# Altium footprint library Vertical_Connectors.PCBLIB: 6 footprints
Each footprint in its own frame and in the unit in brackets; x right, y up, seen from the top. Pads: shape width x height; smd on the part's side, far side on the other; paste and mask are expansions set on the pad; w line width, h text height; cw(c..) or ccw(c..) is an arc to the next point about the centre after c.
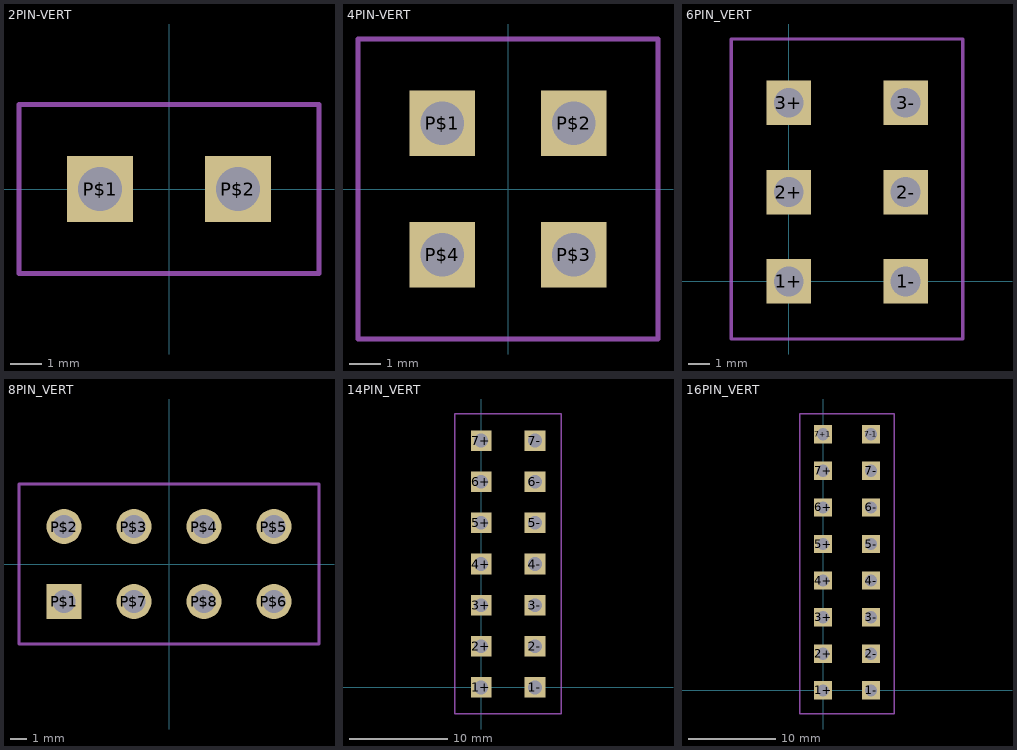
[diagram p0: the footprints below, top view; thin cyan lines are the x and y axes]

## 2PIN-VERT [mm]
pads (2):
  rect 2.1x2.1 / inner round 1.94 / far side rect 2.1x2.1 hole 1.4: P$1(-2.207,0) P$2(2.207,0)
tPlace:
  lines w0.152: -4.8,-2.7 4.8,-2.7 4.8,2.7 -4.8,2.7 -4.8,-2.7

## 4PIN-VERT [mm]
pads (4):
  rect 2.1x2.1 / inner round 1.94 / far side rect 2.1x2.1 hole 1.4: P$1(-2.1,2.1) P$2(2.1,2.1) P$3(2.1,-2.1) P$4(-2.1,-2.1)
tPlace:
  lines w0.152: -4.8,-4.8 4.8,-4.8 4.8,4.8 -4.8,4.8 -4.8,-4.8

## 6PIN_VERT [mm]
pads (6):
  rect 2.1x2.1 / inner round 1.94 / far side rect 2.1x2.1 hole 1.4: 1+(0,0) 1-(5.5,0) 2+(0,4.2) 2-(5.5,4.2) 3+(0,8.4) 3-(5.5,8.4)
tPlace:
  lines w0.152: -2.7,-2.71 -2.7,11.4 8.19,11.4 8.19,-2.71 -2.7,-2.71

## 8PIN_VERT [mm]
pads (8):
  rect 2.1x2.1 / inner round 1.94 / far side rect 2.1x2.1 hole 1.4: P$1(-6.3,-2.25)
  round 2.1 hole 1.4: P$2(-6.3,2.25) P$3(-2.1,2.25) P$4(2.1,2.25) P$5(6.3,2.25) P$6(6.3,-2.25) P$7(-2.1,-2.25) P$8(2.1,-2.25)
tPlace:
  lines w0.152: -9,-4.8 9,-4.8 9,4.8 -9,4.8 -9,-4.8

## 14PIN_VERT [mm]
pads (14):
  rect 2.1x2.1 / inner round 1.94 / far side rect 2.1x2.1 hole 1.4: 1+(0,0) 1-(5.5,0) 2+(0,4.2) 2-(5.5,4.2) 3+(0,8.4) 3-(5.5,8.4) 4+(0,12.6) 4-(5.5,12.6) 5+(0,16.8) 5-(5.5,16.8) 6+(0,21) 6-(5.5,21) 7+(0,25.2) 7-(5.5,25.2)
tPlace:
  lines w0.152: -2.7,-2.71 -2.7,27.91 8.19,27.91 8.19,-2.71 -2.7,-2.71

## 16PIN_VERT [mm]
pads (16):
  rect 2.1x2.1 / inner round 1.94 / far side rect 2.1x2.1 hole 1.4: 1+(0,0) 1-(5.5,0) 2+(0,4.2) 2-(5.5,4.2) 3+(0,8.4) 3-(5.5,8.4) 4+(0,12.6) 4-(5.5,12.6) 5+(0,16.8) 5-(5.5,16.8) 6+(0,21) 6-(5.5,21) 7+(0,25.2) 7+1(0,29.4) 7-(5.5,25.2) 7-1(5.5,29.4)
tPlace:
  lines w0.152: -2.7,-2.71 -2.7,31.72 8.19,31.72 8.19,-2.71 -2.7,-2.71